# Altium schematic symbol library SCH - CONNECTORS - WURTH - 691382000003.Schlib: 1 symbol
Pins are listed as number, name and electrical type; pins without a type are passive.

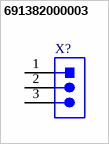
[diagram p0: symbol 691382000003]

## 691382000003
designator X?
WR-TBL Serie 382 Vertical PCB Header, Pluggable, THT, pitch 2.5mm, 3p
pins: 1, 2, 3